# Altium schematic symbol library PBL - Fuses and Protection.SCHLIB: 12 symbols
Pins are listed as number, name and electrical type; pins without a type are passive.

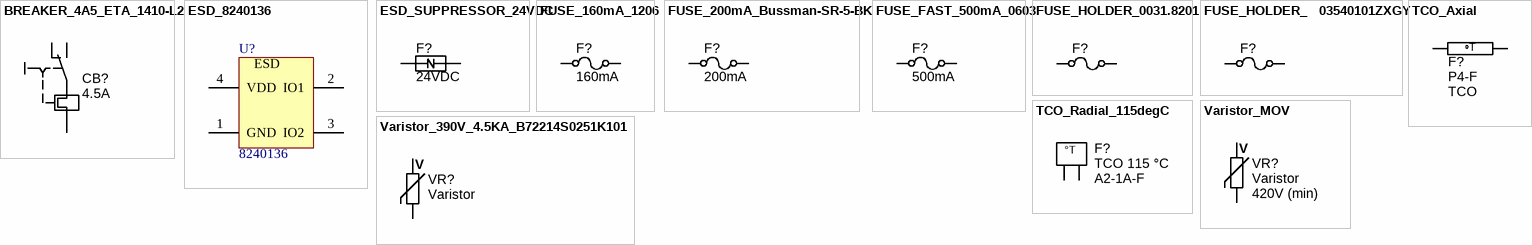
[diagram p0: symbols BREAKER_4A5_ETA_1410-L2 to Varistor_MOV]

## BREAKER_4A5_ETA_1410-L2
designator CB?, comment value 4.5A  (hidden comment: thermal breaker)
Circuit breaker 4.5A PCB mount; Manufacturer 1: E-T-A; Manufacturer Part Number 1: 1410-L210-L2F1-S02-4.5A; Ratings: 4.5A; 28VDC; 240VAC; Voltage: 28VDC, 240VAC; SCDType: spec; Supplier 1: Digi-Key; Supplier Part Number 1: 302-1036-ND; Current - Trip (It): 4.5A
footprint BREAKER_1410-L2 (E-T-A Thermal Overcurrent Circuit Breaker 1410-L2)
pins: 1, 2, 3

## ESD_8240136
designator U?, comment 8240136
TVS DIODE 3.3V 6V SOT143-4; Manufacturer: Wurth Electronics Inc.; Voltage - Reverse Standoff (Typ): 3.3V (Max); Voltage - Breakdown (Min): 4.5V; Voltage - Clamping (Max) @ Ipp: 6V (Typ); Current - Peak Pulse (10/1000µs): 12A (8/20µs); Power Line Protection: Yes; Supplier 1: Digi-Key; Supplier Part Number 1: 732-4472-1-ND; RoHS: RoHS Compliant; Category: Circuit Protection; Stock 1: 3777; Pricing 1: 1=1.2, 10=1.142, 50=1.066, 100=0.99, 500=0.876 (USD); Packaging: Cut Tape (CT); Part Status: Active; Type: Steering (Rail to Rail); Power - Peak Pulse: -; Applications: General Purpose; Capacitance @ Frequency: -; Operating Temperature: -55°C ~ 125°C (TJ); Mounting Type: Surface Mount; Package / Case: TO-253-4, TO-253AA; Supplier Device Package: SOT-143-4; ComponentLink1URL: http://katalog.we-online.de/pbs/datasheet/8240136.pdf; ComponentLink1Description: http://katalog.we-online.de/pbs/datasheet/8240136.pdf; Manufacturer Part Number: 8240136
footprint SOT143-4L
pins: 1 GND, 2 IO1, 3 IO2, 4 VDD
text: ESD

## ESD_SUPPRESSOR_24VDC
designator F?, comment value 24VDC  (hidden comment: ESD suppressor)
ESD Suppressor 24VDC 0603 SMD; Manufacturer 1: Cooper Bussmann; Manufacturer Part Number 1: 0603ESDA-TR1; Voltage - Working: 24V; Voltage - Clamping: 35V; SCDType: spec; Package / Case: 0603 (1608 metric); Supplier 1: Digi-Key; Supplier Part Number 1: 283-2535-1-ND; ComponentLink1URL: http://www.cooperindustries.com/content/dam/public/bussmann/Electronics/Resources/Data%20Sheets/Bus_Elx_DS_4082_0603ESDA-TR.pdf; ComponentLink1Description: http://www.cooperindustries.com/content/dam/public/bussmann/Electronics/Resources/Data%20Sheets/Bus_Elx_DS_4082_0603ESDA-TR.pdf
footprint 0603ESDA (Chip ESD suppressor, Body 1.6x0.8mm, 0603, IPC Medium Density)
pins: 1, 2

## FUSE_160mA_1206
designator F?, comment value 160mA  (hidden comment: Slow-blow)
Fuse 160mA 63VDC 1206 SMD; Manufacturer 1: Holly Fuse; Manufacturer Part Number 1: 12T-0160L; Ratings: 160mA; 63VDC; slow-blow; SCDType: spec; Package / Case: 1206 (3216 metric)
footprint RESC3216X70N (Chip Resistor, Body 3.2x1.6mm, EIA 1206, IPC Medium Density)
pins: 1, 2

## FUSE_200mA_Bussman-SR-5-BK
designator F?, comment value 200mA  (hidden comment: Slow-blow)
Fuse 200mA 250VAC Radial 5.08mm pitch; Manufacturer 1: Cooper Bussmann; Manufacturer Part Number 1: SR-5-200MA-BK; Ratings: 200mA; 250VAC; slow-blow; SCDType: source; Package / Case: Radial 5.08mm pitch; Supplier 1: Mouser; Supplier Part Number 1: 504-SR-5-200MA-BK
footprint FUSE_SR-5-BK
pins: 1, 2

## FUSE_FAST_500mA_0603
designator F?, comment value 500mA  (hidden comment: Fast Acting)
Fuse 500mA 32VDC 0603 SMD; Manufacturer 1: AVX Corporation; Manufacturer Part Number 1: F0603E0R50FSTR; Ratings: 500mA; 32VDC; fast acting; DC Cold Resistance: 0.25 Ohm; SCDType: source; Package / Case: 0603 (1608 metric); Fuse Type: Fast Acting; ComponentLink1URL: http://www.avx.com/docs/Catalogs/accug2.pdf; ComponentLink1Description: http://www.avx.com/docs/Catalogs/accug2.pdf; Supplier 1: Digi-Key; Supplier Part Number 1: 478-2860-1-ND; Operating Temperature: -55°C ~ 125°C
footprint RESC1608X55N (Chip Resistor, Body 1.6x0.8mm, EIA 0603, IPC Medium Density)
pins: 1, 2

## FUSE_HOLDER_0031.8201
designator F?
Fuse Block 10A 500V 1 Circuit Cartridge PCB; Manufacturer: Schurter Inc.; Manufacturer Part Number: 0031.8201; Description: FUSE BLOK CARTRIDGE 500V 10A PCB; For Use With/Related Products: 5mm x 20mm; Supplier 1: Digi-Key; Supplier Part Number 1: 486-1258-ND; RoHS: RoHS Compliant; Category: Circuit Protection; Stock 1: 35247; Pricing 1: 1=0.89, 50=0.663, 100=0.596, 500=0.45, 1000=0.3336 (USD); Part Status: Active; Fuseholder Type: Block; Fuse Type: Cartridge; Fuse Size: 5mm x 20mm; Voltage: 500V; Mounting Type: PCB; Orientation: Horizontal; Termination Style: PC Pin; Contact Material: Copper Alloy; Contact Finish: Tin; ComponentLink1URL: http://www.schurterinc.com/bundles/snceschurter/epim/_ProdPool_/newDS/en/typ_OGN.pdf; ComponentLink1Description: http://www.schurterinc.com/bundles/snceschurter/epim/_ProdPool_/newDS/en/typ_OGN.pdf
footprint Fuse Holder 0031.8201
pins: 1, 2

## FUSE_HOLDER_   03540101ZXGY
designator F?, comment Slow-blow  (value not drawn)
Fuse Block 600V Circuit Cartridge PCB; Manufacturer: Littelfuse Inc.; Manufacturer Part Number: 03540101ZXGY; For Use With/Related Products: 3AB, 3AG; Fuse Size: 1/4" Dia x 1 1/4" L (6.4mm x 31.8mm); Supplier 1: Digi-Key; Supplier Part Number 1: F1498-ND; RoHS: RoHS Compliant; Category: Circuit Protection; Stock 1: 5410; Pricing 1: 1=1.25, 5=1.21, 10=1.131, 50=0.936, 100=0.78, 250=0.76052, 500=0.6435, 1000=0.5655, 5000=0.507 (USD); Part Status: Active; Fuseholder Type: Block; Fuse Type: Cartridge; Voltage: 600V; Mounting Type: PCB; Orientation: Horizontal; Termination Style: PC Pin; Contact Material: Phosphorus Bronze; Contact Finish: Tin; ComponentLink1URL: http://www.littelfuse.com/~/media/electronics/datasheets/fuse_blocks/littelfuse_fuse_block_354_datasheet.pdf.pdf; ComponentLink1Description: http://www.littelfuse.com/~/media/electronics/datasheets/fuse_blocks/littelfuse_fuse_block_354_datasheet.pdf.pdf
footprint 3AB 3AG fuseholder
pins: 1, 2

## TCO_Axial
designator F?, comment TCO  Manufacturer Part Number 1: P4-F
Thermal cutoff axial 2 Amp 130 deg C; Manufacturer 1: Aupo; Ratings: 130°C; 2.0A; 250Vac; SCDType: source; Package / Case: diam. 2.1 x 6.5mm
footprint AUPO_P-4F_BEND1 (Aupo P-4F TCO for positioning on IC legs)
footprint AUPO_P-4F_BEND2 (Aupo P-4F TCO for positioning on IC legs)
footprint AUPO_P-4F_BEND3 (Aupo P-4F TCO for positioning on IC legs)
footprint AUPO_P-4F_BEND4 (Aupo P-4F TCO for positioning on IC legs)
footprint AUPO_P-4F_BEND5 (Aupo P-4F TCO for positioning on IC legs)
footprint AUPO_P-4F_BEND6 (Aupo P-4F TCO for positioning on IC legs)
footprint AUPO_P-4F_BEND6M (Aupo P-4F TCO for positioning on IC legs)
footprint AUPO_P-4F_BEND7 (Aupo P-4F TCO for positioning on IC legs)
footprint AUPO_P-4F_BEND8 (Aupo P-4F TCO for positioning on IC legs)
footprint AUPO_P-4F_BEND8T (Aupo P-4F TCO for positioning on top of FETs)
footprint AUPO_P-4F_BEND8S (Aupo P-4F TCO for positioning beside FETs)
footprint AUPO_P-4F_BEND6SP (Aupo P-4F TCO for positioning on IC legs)
pins: 1, 2
text: T

## TCO_Radial_115degC
designator F?, comment TCO 115 °C  Manufacturer Part Number 1: A2-1A-F
Thermal cutoff radial 1 Amp 115 degrees C; Manufacturer 1: Aupo; Ratings: 115°C; 1.0A; 250Vac; SCDType: spec; Package / Case: 5.2W x 4.0H x 3.5mm Pitch
footprint TCO_Aupo_Ax-1A_Radial_THD (thermal fuse, Ax-1A)
pins: 1, 2
text: °T

## Varistor_390V_4.5KA_B72214S0251K101
designator VR?, comment Varistor
390V Varistor Circuit Through Hole Disc 14mm; Manufacturer: EPCOS (TDK); Manufacturer Part Number: B72214S0251K101; Varistor Voltage (Min): 351V; Varistor Voltage (Max): 429V; Energy: 65J; Maximum AC Volts: 250VAC; Maximum DC Volts: 320VDC; Capacitance @ Frequency: 940pF @ 1kHz; Supplier 1: Digi-Key; Supplier Part Number 1: 495-4375-ND; RoHS: RoHS Compliant; Category: Circuit Protection; Stock 1: 4808; Pricing 1: 1=0.52, 10=0.438, 25=0.3836, 100=0.3288, 250=0.28496, 500=0.24112, 1000=0.18632, 2500=0.16988, 5000=0.15892 (USD); Packaging: Bulk; Part Status: Active; Varistor Voltage (Typ): 390V; Operating Temperature: -40°C ~ 105°C (TA); Mounting Type: Through Hole; Package / Case: Disc 14mm; ComponentLink1URL: https://en.tdk.eu/inf/70/db/var_11/SIOV_Leaded_StandarD.pdf; ComponentLink1Description: https://en.tdk.eu/inf/70/db/var_11/SIOV_Leaded_StandarD.pdf
footprint B722 14MM MOV (MOV)
pins: 1, 2
text: V

## Varistor_MOV
designator VR?, comment Varistor  Ratings: 420V (min)
Varistor 420V min; Manufacturer 1: Bourns Inc.; Manufacturer Part Number 1: MOV-10D621K; Voltage: 620V; SCDType: source; Supplier 1: Digi-Key; Supplier Part Number 1: MOV-10D621K-ND
footprint Varistor_7.62and10mm (Capacitor, Ceramic, Thru-Hole, Dipped Radial; Body 6.8 x 3 mm (WxT) Pin Spacing 7.62 mm (typ))
pins: 1, 2
text: V